# Altium schematic symbol library LOGO_IISA.Schlib: 1 symbol
Pins are listed as number, name and electrical type; pins without a type are passive.

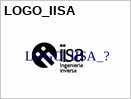
[diagram p0: symbol LOGO_IISA]

## LOGO_IISA
designator LOGO_IISA_?  (value not drawn)  (no BOM)